# Altium footprint library pcb1.PcbLib: 10 footprints
Each footprint in its own frame and in the unit in brackets; x right, y up, seen from the top. Pads: shape width x height; smd on the part's side, far side on the other; paste and mask are expansions set on the pad; w line width, h text height; cw(c..) or ccw(c..) is an arc to the next point about the centre after c.
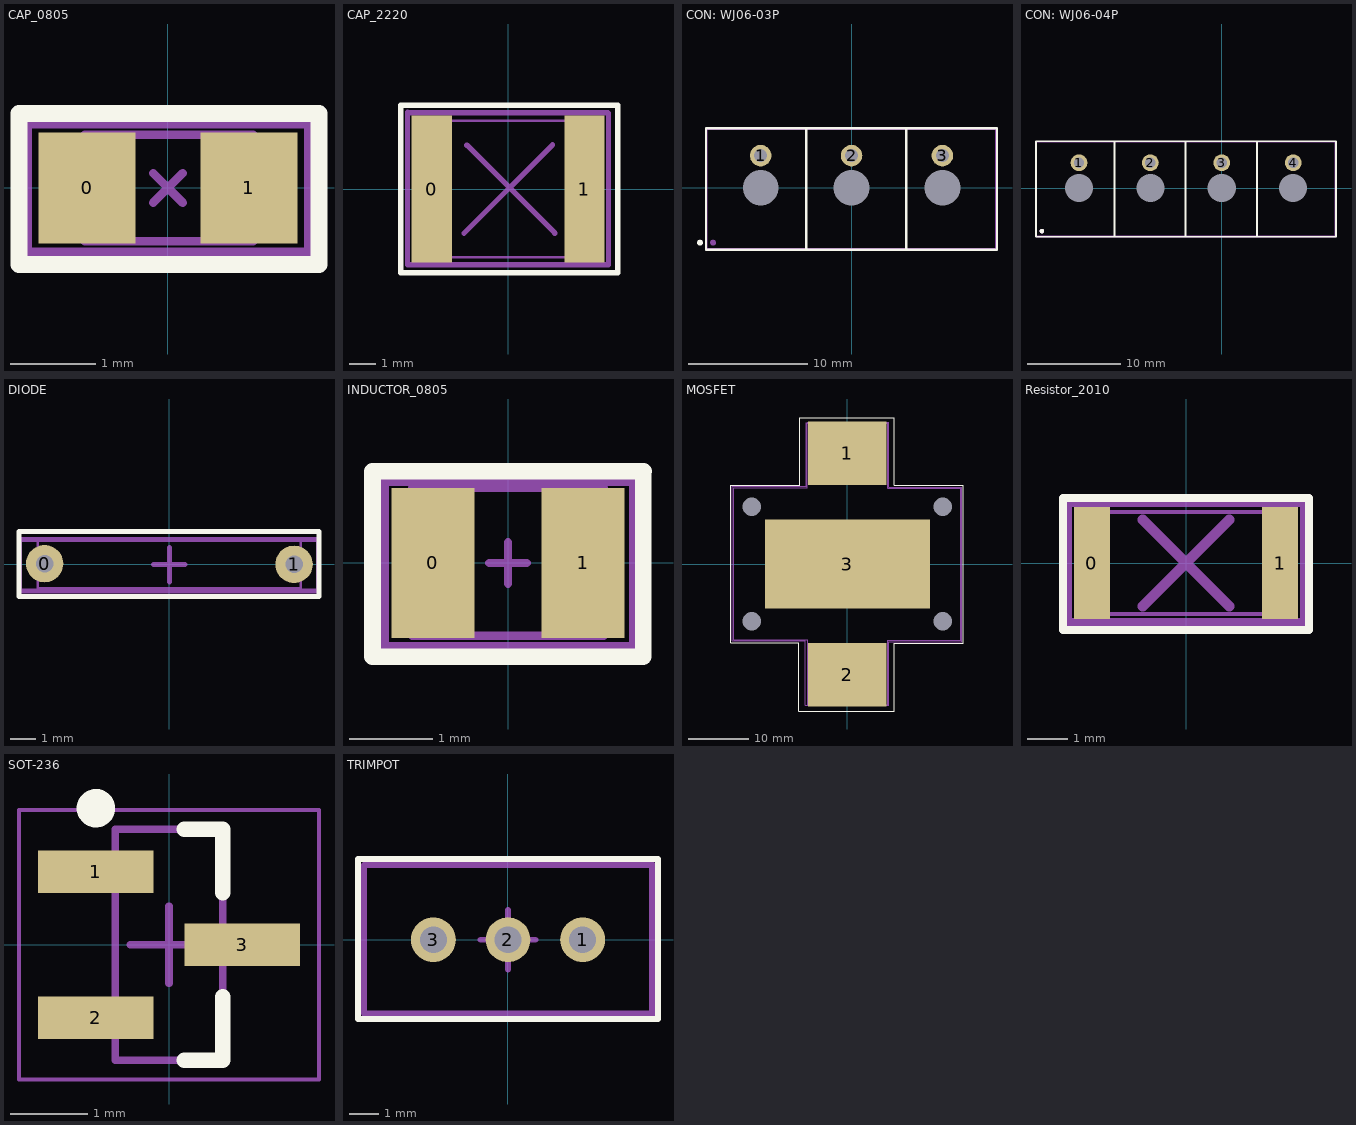
[diagram p0: the footprints below, top view; thin cyan lines are the x and y axes]

## CAP_0805 [mm]
pads (2):
  rect 1.14x1.3 all layers, no hole: 0(-0.95,0) 1(0.95,0)
Top Overlay:
  lines w0.2: -1.75,-0.9 1.775,-0.9 1.775,0.875 -1.75,0.875 -1.75,-0.9
Top Assy:
  lines w0.1: -0.975,-0.625 -0.975,0.625 1,0.625 1,-0.625 -0.975,-0.625
Border:
  lines w0.1: -0.175,-0.175 0.175,0.175 ; -0.175,0.175 0.175,-0.175
  lines w0.2: -1.7,-0.8 -1.7,0.8 1.7,0.8 1.7,-0.8 -1.7,-0.8
3D body "0805C.stp": height 0.61, standoff 0, extent -1,-0.625 1,0.625

## CAP_2220 [mm]
pads (2):
  rect 1.5x5.5 all layers, no hole: 0(-2.85,0) 1(2.85,0)
Top Overlay:
  lines w0.2: 4.075,-3.125 -4,-3.125 -4,3.125 4.1,3.125 4.1,-3.125
Top Assy:
  lines w0.1: -2.825,-2.55 -2.825,2.55 2.825,2.55 2.825,-2.55 -2.825,-2.55
Border:
  lines w0.2: -3.75,2.875 -3.75,-2.825 3.75,-2.825 3.75,2.825 ; -3.725,2.85 3.725,2.85 ; -1.641,-1.652 1.659,1.648 ; -1.538,1.637 1.75,-1.65
3D body "smd2220c.stp": height 1.8, standoff 0, extent -2.8,-2.5 2.8,2.5

## CON: WJ06-03P [mm]
pads (8):
  round 1.8 hole 1.1: 1(-7.62,2.7) 2(0,2.7) 3(7.62,2.7)
  round 0.5 on Top Overlay: ""(-12.71,-4.6)
  round 0.5 on Mech1: ""(-11.61,-4.6)
  round 2.4 hole 3: ""(-7.62,0) ""(0,0) ""(7.62,0)
Top Overlay:
  lines w0.2: -3.81,-5.2 -3.81,5 ; 4.59,-5.2 4.59,5 ; 4.59,-5.2 -12.21,-5.2 -12.21,5 4.59,5 ; 4.59,-5.2 12.2,-5.2 12.2,5 4.59,5
Top Assy:
  lines w0.1: -12.12,-5.08 -12.12,4.92 12.1,4.92 12.1,-5.08 -12.12,-5.08
Border:
  lines w0.1: -0.5,0 0.5,0 ; 0,-0.5 0,0.5 ; -12.21,-5.175 -12.21,5 4.59,5 4.59,-5.175 -12.21,-5.175
3D body "Разъем 3х7.62.STEP": height 6, standoff 0, extent -12.12,-5.08 12.12,4.92

## CON: WJ06-04P [mm]
pads (10):
  round 1.8 hole 1.1: 1(-15.24,2.7) 2(-7.62,2.7) 3(0,2.7) 4(7.63,2.7)
  round 0.5 on Mech1: ""(-19.2,-4.6)
  round 0.5 on Top Overlay: ""(-19.2,-4.6)
  round 2.4 hole 3: ""(-15.24,0) ""(-7.62,0) ""(0,0) ""(7.62,0)
Top Overlay:
  lines w0.2: -11.43,-5.2 -11.43,5 ; -3.03,-5.2 -19.83,-5.2 -19.83,5 -3.03,5 ; 3.78,-5.2 3.78,5 ; -3.87,-5.2 -3.87,5 12.2,5 12.2,-5.2 -3.87,-5.2
Top Assy:
  lines w0.1: -19.74,-5.08 -19.74,4.92 12.1,4.92 12.1,-5.08 -19.74,-5.08
Border:
  lines w0.1: -8.12,0 -7.12,0 ; -7.62,-0.5 -7.62,0.5 ; -19.83,-5.175 -19.83,5 12.2,5 12.2,-5.175 -19.83,-5.175
3D body "Разъем 4pin.STEP": height 5.95, standoff -0.05, extent -19.74,-5.08 12.12,4.92

## DIODE [mm]
pads (2):
  round 1.5 hole 0.7: 0(-5,0.025) 1(5,0)
Top Overlay:
  lines w0.2: -6.025,-1.3 6,-1.3 6,1.325 -6.025,1.325 -6.025,-1.3
Top Assy:
  lines w0.1: -5.275,-0.95 -5.275,0.975 5.275,0.975 5.275,-0.95 -5.275,-0.95
Border:
  lines w0.2: -0.625,0 0.625,0 ; 0,-0.7 0,0.675 ; -6,-1.075 5.975,-1.075 5.975,1 -6,1 -6,-1.075
3D body "1N4148.stp": height 2.94, standoff -0.93, extent -5.25,-0.948 5.25,0.948

## INDUCTOR_0805 [mm]
pads (2):
  rect 1x1.8 all layers, no hole: 0(-0.9,0) 1(0.9,0)
Top Overlay:
  lines w0.2: 1.625,1.1 1.625,-1.125 -1.625,-1.125 -1.625,1.1 1.625,1.1 ; 1.625,1.1 1.625,1.1
Top Assy:
  lines w0.1: -1.15,-0.875 -1.15,0.9 1.15,0.9 1.15,-0.875 -1.15,-0.875
Border:
  lines w0.1: -0.225,0 0.225,0 ; 0,-0.25 0,0.25
  lines w0.2: -1.525,1 -1.525,-1.05 1.525,-1.05 1.55,-1.025 1.55,1.025 -1.5,1.025
3D body "smd0805l.stp": height 1.43, standoff 0, extent -1.15,-0.891 1.15,0.891

## MOSFET [mm]
pads (7):
  round 0 hole 3.05: 0(-15.875,-9.525) 0(-15.875,9.525) 0(15.875,-9.525) 0(15.875,9.525)
  rect 13.1x10.6 all layers, no hole: 1(0,18.4) 2(0,-18.4)
  rect 27.45x14.75 all layers, no hole: 3(0,0)
Top Overlay:
  lines w0.2: -19.4,-13.1 -8.1,-13.1 -8.1,-24.5 7.8,-24.5 7.8,-13.2 19.3,-13.2 19.3,13.1 7.8,13.1 7.8,24.3 -7.9,24.3 -7.9,13.1 -19.4,13.1 -19.4,-13.1
Top Assy:
  lines w0.1: -18.9,-12.6 -6.6,-12.6 -6.6,-23.4 6.7,-23.4 6.7,-12.7 18.9,-12.7 18.9,12.6 6.7,12.6 6.7,23.4 -6.7,23.4 -6.7,12.7 -18.9,12.7 -18.9,-12.6
Border:
  lines w0.2: -2.3,0 2.2,0 ; 0,-2.9 0,2.5 ; 6.9,-12.9 19,-12.9 19,12.8 6.9,12.8 6.9,23.6 -6.7,23.6 -6.8,23.5 -6.8,12.9 -19.1,12.9 -19.1,-12.8 -7,-12.8 -7,-23.5 6.9,-23.5 6.9,-12.9 ; 6.9,-12.9 6.9,-12.9
3D body "MRF157.stp": height 8.38, standoff 0, extent -18.925,-23.375 18.925,23.375

## Resistor_2010 [mm]
pads (2):
  rect 0.9x2.8 all layers, no hole: 0(-2.35,0) 1(2.35,0)
Top Overlay:
  lines w0.2: -3.075,-1.675 -3.075,1.625 3.075,1.625 3.075,-1.675 -3.075,-1.675
Top Assy:
  lines w0.1: -2.5,1.25 -2.5,-1.275 2.5,-1.275 2.5,1.275 -2.475,1.275
Border:
  lines w0.2: -2.95,-1.475 -2.95,1.5 2.95,1.5 2.95,-1.475 -2.95,-1.475
  lines w0.254: -1.079,-1.079 1.079,1.079 ; -1.079,1.079 1.079,-1.079
3D body "SMD2010R.stp": height 0.55, standoff 0, extent -2.5,-1.25 2.5,1.25

## SOT-236 [mm] "SOT23, 3-Leads, Body 2.90x2.45mm, Pitch 0.95mm, IPC Medium Density"
height 1.1
pads (3):
  rect 1.5x0.55 smd: 1(-0.95,0.95) 2(-0.95,-0.95) 3(0.95,0)
Top Overlay:
  circle w0.25: c-0.95,1.775 r0.125
  lines w0.2: 0.2,-1.5 0.7,-1.5 0.7,-0.675 ; 0.2,1.5 0.7,1.5 0.7,0.675
3D model:
  lines w0.1: -0.7,-1.5 -0.7,1.5 0.7,1.5 0.7,-1.5 -0.7,-1.5
Border:
  lines w0.05: -1.95,-1.75 -1.95,1.75 1.95,1.75 1.95,-1.75 -1.95,-1.75
  lines w0.1: -0.5,0 0.5,0 ; 0,-0.5 0,0.5
3D body: height 1.1, standoff 0.05, extent -0.7,-1.5 0.7,1.5

## TRIMPOT [mm]
pads (3):
  round 1.5 hole 0.9: 1(2.5,0) 2(0,0) 3(-2.5,0)
Top Overlay:
  lines w0.2: -5.025,-2.65 -5.025,2.7 5.025,2.7 5.025,-2.65 -5.025,-2.65
Top Assy:
  lines w0.1: -4.775,2.425 -4.775,-2.425 4.775,-2.425 4.775,2.45 -4.75,2.45
Border:
  lines w0.2: -0.925,0 0.925,0 ; 0,-1 0,1 ; -4.825,-2.475 -4.825,2.5 4.85,2.5 4.85,-2.475 -4.825,-2.475
3D body "RPOT.stp": height 14.95, standoff -3, extent -4.765,-2.415 4.765,2.415